# Altium footprint library 排针-排母.PcbLib: 215 footprints (part 4 of 14)
Each footprint in its own frame and in the unit in brackets; x right, y up, seen from the top. Pads: shape width x height; smd on the part's side, far side on the other; paste and mask are expansions set on the pad; w line width, h text height; cw(c..) or ccw(c..) is an arc to the next point about the centre after c.
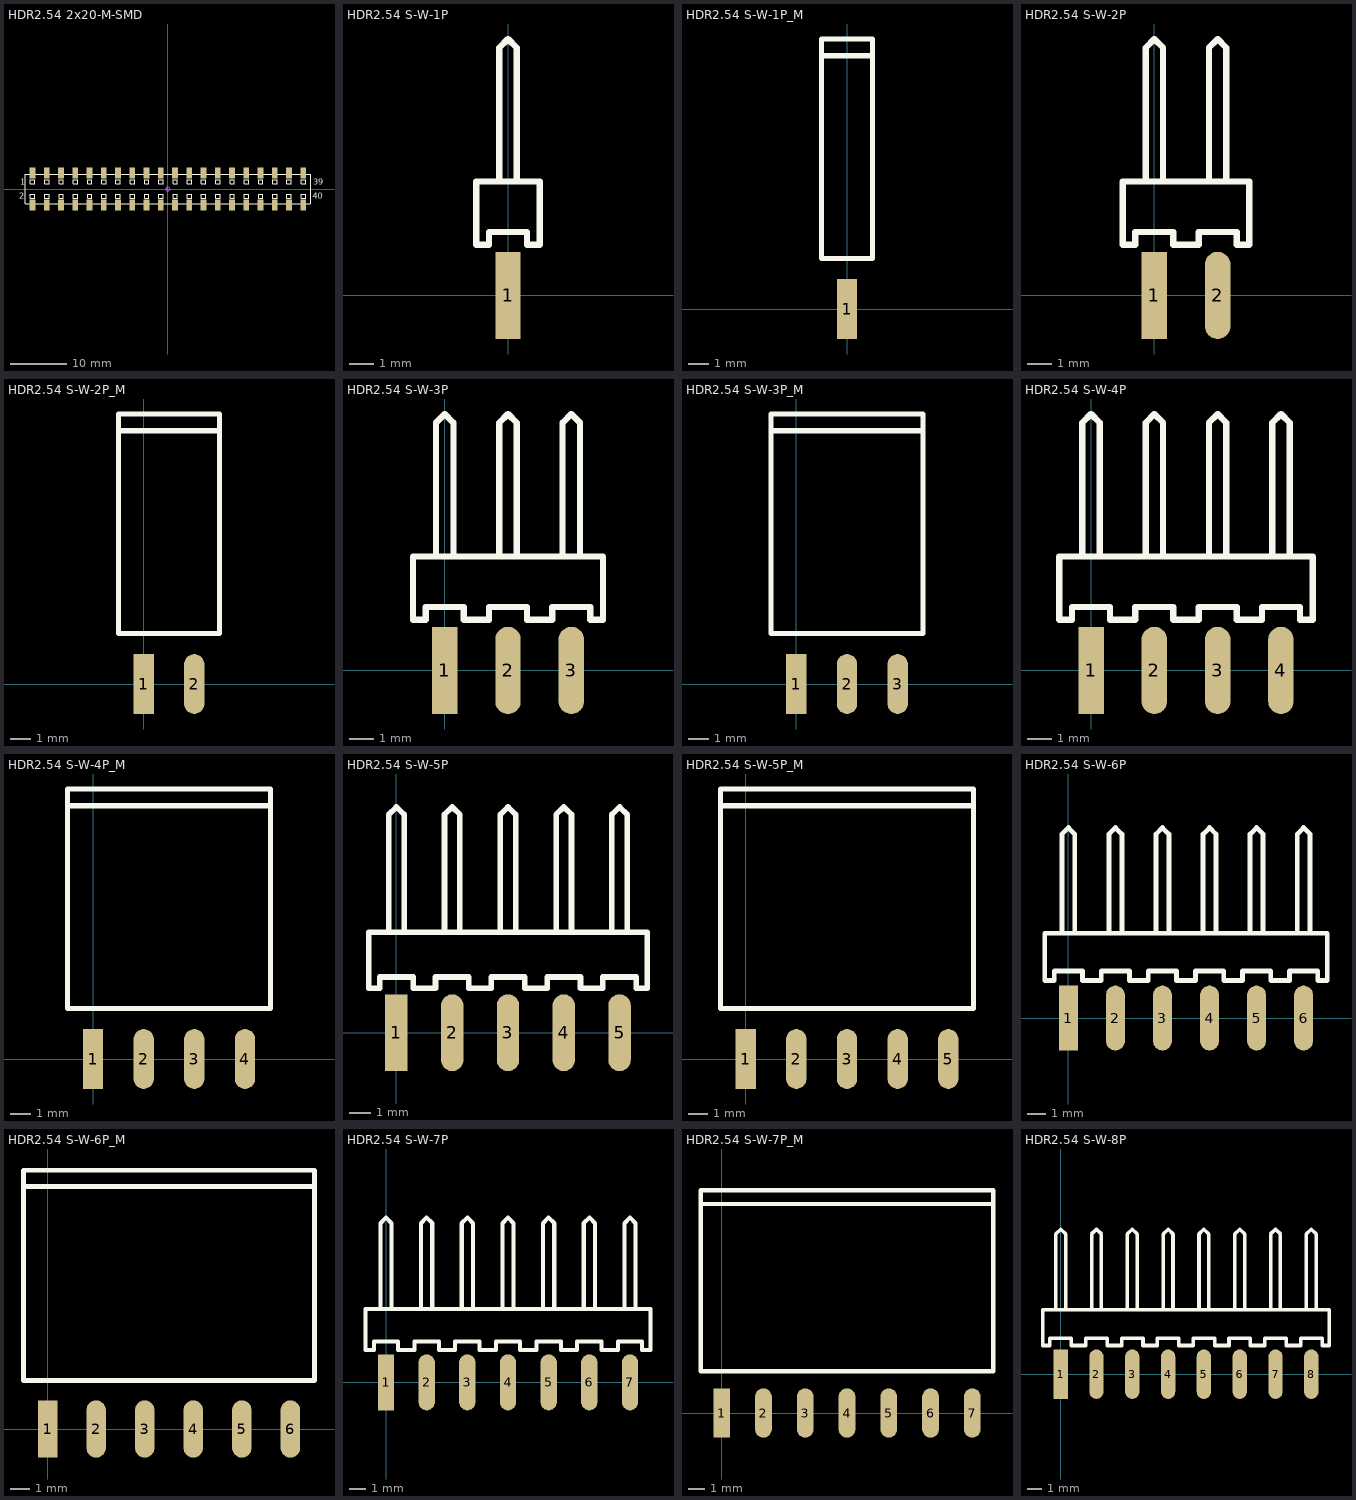
[diagram p3: the footprints below, top view; thin cyan lines are the x and y axes]

## HDR2.54 2x20-M-SMD [mm] "脚距：2.54mm，贴片双排母"
pads (40):
  rect 1.02x1.9 smd: 1(-24.13,2.85) 2(-24.13,-2.85) 3(-21.59,2.85) 4(-21.59,-2.85) 5(-19.05,2.85) 6(-19.05,-2.85) 7(-16.51,2.85) 8(-16.51,-2.85) 9(-13.97,2.85) 10(-13.97,-2.85) 11(-11.43,2.85) 12(-11.43,-2.85) 13(-8.89,2.85) 14(-8.89,-2.85) 15(-6.35,2.85) 16(-6.35,-2.85) 17(-3.81,2.85) 18(-3.81,-2.85) 19(-1.27,2.85) 20(-1.27,-2.85) 21(1.27,2.85) 22(1.27,-2.85) 23(3.81,2.85) 24(3.81,-2.85) 25(6.35,2.85) 26(6.35,-2.85) 27(8.89,2.85) 28(8.89,-2.85) 29(11.43,2.85) 30(11.43,-2.85) 31(13.97,2.85) 32(13.97,-2.85) 33(16.51,2.85) 34(16.51,-2.85) 35(19.05,2.85) 36(19.05,-2.85) 37(21.59,2.85) 38(21.59,-2.85) 39(24.13,2.85) 40(24.13,-2.85)
Top Overlay:
  drawing of 164 lines, arcs and shapes, not listed
  text "40" at 25.781,-1.778 h1.02
  text "39" at 25.908,0.762 h1.02
  text "1" at -26.289,0.762 h1.02
  text "2" at -26.543,-1.778 h1.02
Mechanical 15:
  circle w0.05: c0,0 r0.35
  lines w0.05: -0.5,0 0.5,0 ; 0,-0.5 0,0.5
3D body "HDR2.54 2x1P_M.STEP": height 5.15, standoff 0, extent -20.35,-3.2 -17.75,3.2
3D body "HDR2.54 2x1P_M.STEP": height 5.15, standoff 0, extent -22.89,-3.2 -20.29,3.2
3D body "HDR2.54 2x1P_M.STEP": height 5.15, standoff 0, extent -25.43,-3.2 -22.83,3.2
3D body "HDR2.54 2x1P_M.STEP": height 5.15, standoff 0, extent -17.81,-3.2 -15.21,3.2
3D body "HDR2.54 2x1P_M.STEP": height 5.15, standoff 0, extent -15.27,-3.2 -12.67,3.2
3D body "HDR2.54 2x1P_M.STEP": height 5.15, standoff 0, extent -12.73,-3.2 -10.13,3.2
3D body "HDR2.54 2x1P_M.STEP": height 5.15, standoff 0, extent -10.19,-3.2 -7.59,3.2
3D body "HDR2.54 2x1P_M.STEP": height 5.15, standoff 0, extent -7.65,-3.2 -5.05,3.2
3D body "HDR2.54 2x1P_M.STEP": height 5.15, standoff 0, extent -5.11,-3.2 -2.51,3.2
3D body "HDR2.54 2x1P_M.STEP": height 5.15, standoff 0, extent -2.57,-3.2 0.03,3.2
3D body "HDR2.54 2x1P_M.STEP": height 5.15, standoff 0, extent -0.03,-3.2 2.57,3.2
3D body "HDR2.54 2x1P_M.STEP": height 5.15, standoff 0, extent 2.51,-3.2 5.11,3.2
3D body "HDR2.54 2x1P_M.STEP": height 5.15, standoff 0, extent 5.05,-3.2 7.65,3.2
3D body "HDR2.54 2x1P_M.STEP": height 5.15, standoff 0, extent 7.59,-3.2 10.19,3.2
3D body "HDR2.54 2x1P_M.STEP": height 5.15, standoff 0, extent 10.13,-3.2 12.73,3.2
3D body "HDR2.54 2x1P_M.STEP": height 5.15, standoff 0, extent 12.67,-3.2 15.27,3.2
3D body "HDR2.54 2x1P_M.STEP": height 5.15, standoff 0, extent 15.21,-3.2 17.81,3.2
3D body "HDR2.54 2x1P_M.STEP": height 5.15, standoff 0, extent 17.75,-3.2 20.35,3.2
3D body "HDR2.54 2x1P_M.STEP": height 5.15, standoff 0, extent 20.29,-3.2 22.89,3.2
3D body "HDR2.54 2x1P_M.STEP": height 5.15, standoff 0, extent 22.83,-3.2 25.43,3.2

## HDR2.54 S-W-1P [mm] "1P卧式贴片排针2.54"
pads (1):
  rect 1.02x3.5 smd: 1(0,0)
Top Overlay:
  lines w0.254: -0.35,4.572 -0.35,9.8 -0.35,9.937 0,10.287 0.35,9.937 0.35,9.8 0.35,4.572 ; -1.27,2.032 -0.762,2.032 -0.762,2.54 0.508,2.54 0.762,2.54 0.762,2.032 1.27,2.032 1.27,4.572 -1.27,4.572 -1.27,2.032
3D body "HDR2.54 S-W-1P.STEP": height 2.54, standoff -0.01, extent -1.27,-0.76 1.27,10.34

## HDR2.54 S-W-1P_M [mm] "1P卧式贴片排母2.54"
pads (1):
  rect 1.02x3 smd: 1(0,0)
Top Overlay:
  lines w0.254: -1.27,12.7 1.27,12.7 ; -1.27,2.54 -1.27,13.54 1.27,13.54 1.27,2.54 -1.27,2.54
3D body "HDR2.54 S-W-1P_M.STEP": height 2.54, standoff -0.01, extent -1.27,-0.43 1.27,13.54

## HDR2.54 S-W-2P [mm] "2P卧式贴片排针2.54"
pads (2):
  rect 1.02x3.5 smd: 1(0,0)
  oval 1.02x3.5 smd: 2(2.54,0)
Top Overlay:
  lines w0.254: -0.35,4.572 -0.35,9.8 -0.35,9.937 0,10.287 0.35,9.937 0.35,9.8 0.35,4.572 ; 2.19,4.572 2.19,9.8 2.19,9.937 2.54,10.287 2.89,9.937 2.89,9.8 2.89,4.572 ; -1.27,2.032 -0.762,2.032 -0.762,2.54 0.508,2.54 0.762,2.54 0.762,2.032 1.27,2.032 1.778,2.032 1.778,2.54 3.048,2.54 3.302,2.54 3.302,2.032 3.81,2.032 3.81,4.572 1.27,4.572 -1.27,4.572 -1.27,2.032
3D body "HDR2.54 S-W-1P.STEP": height 2.54, standoff -0.01, extent -1.27,-0.76 1.27,10.34
3D body "HDR2.54 S-W-1P.STEP": height 2.54, standoff -0.01, extent 1.27,-0.76 3.81,10.34

## HDR2.54 S-W-2P_M [mm] "2P卧式贴片排母2.54"
pads (2):
  rect 1.02x3 smd: 1(0,0)
  oval 1.02x3 smd: 2(2.54,0)
Top Overlay:
  lines w0.254: -1.27,12.7 1.27,12.7 3.81,12.7 ; -1.27,2.54 1.27,2.54 3.81,2.54 3.81,13.54 1.27,13.54 -1.27,13.54 -1.27,2.54
3D body "HDR2.54 S-W-1P_M.STEP": height 2.54, standoff -0.01, extent -1.27,-0.43 1.27,13.54
3D body "HDR2.54 S-W-1P_M.STEP": height 2.54, standoff -0.01, extent 1.27,-0.43 3.81,13.54

## HDR2.54 S-W-3P [mm] "3P卧式贴片排针2.54"
pads (3):
  rect 1.02x3.5 smd: 1(0,0)
  oval 1.02x3.5 smd: 2(2.54,0) 3(5.08,0)
Top Overlay:
  lines w0.254: -0.35,4.572 -0.35,9.8 -0.35,9.937 0,10.287 0.35,9.937 0.35,9.8 0.35,4.572 ; 2.19,4.572 2.19,9.8 2.19,9.937 2.54,10.287 2.89,9.937 2.89,9.8 2.89,4.572 ; 4.73,4.572 4.73,9.8 4.73,9.937 5.08,10.287 5.43,9.937 5.43,9.8 5.43,4.572 ; -1.27,2.032 -0.762,2.032 -0.762,2.54 0.508,2.54 0.762,2.54 0.762,2.032 1.27,2.032 1.778,2.032 1.778,2.54 3.048,2.54 3.302,2.54 3.302,2.032 3.81,2.032 4.318,2.032 4.318,2.54 5.588,2.54 5.842,2.54 5.842,2.032 6.35,2.032 6.35,4.572 3.81,4.572 1.27,4.572 -1.27,4.572 -1.27,2.032
3D body "HDR2.54 S-W-1P.STEP": height 2.54, standoff -0.01, extent 3.81,-0.76 6.35,10.34
3D body "HDR2.54 S-W-1P.STEP": height 2.54, standoff -0.01, extent 1.27,-0.76 3.81,10.34
3D body "HDR2.54 S-W-1P.STEP": height 2.54, standoff -0.01, extent -1.27,-0.76 1.27,10.34

## HDR2.54 S-W-3P_M [mm] "3P卧式贴片排母2.54"
pads (3):
  rect 1.02x3 smd: 1(0,0)
  oval 1.02x3 smd: 2(2.54,0) 3(5.08,0)
Top Overlay:
  lines w0.254: -1.27,12.7 1.27,12.7 3.81,12.7 6.35,12.7 ; -1.27,2.54 -1.27,13.54 1.27,13.54 3.81,13.54 6.35,13.54 6.35,2.54 3.81,2.54 1.27,2.54 -1.27,2.54
3D body "HDR2.54 S-W-1P_M.STEP": height 2.54, standoff -0.01, extent 3.81,-0.43 6.35,13.54
3D body "HDR2.54 S-W-1P_M.STEP": height 2.54, standoff -0.01, extent 1.27,-0.43 3.81,13.54
3D body "HDR2.54 S-W-1P_M.STEP": height 2.54, standoff -0.01, extent -1.27,-0.43 1.27,13.54

## HDR2.54 S-W-4P [mm] "4P卧式贴片排针2.54"
pads (4):
  rect 1.02x3.5 smd: 1(0,0)
  oval 1.02x3.5 smd: 2(2.54,0) 3(5.08,0) 4(7.62,0)
Top Overlay:
  lines w0.254: -0.35,4.572 -0.35,9.8 -0.35,9.937 0,10.287 0.35,9.937 0.35,9.8 0.35,4.572 ; 2.19,4.572 2.19,9.8 2.19,9.937 2.54,10.287 2.89,9.937 2.89,9.8 2.89,4.572 ; 4.73,4.572 4.73,9.8 4.73,9.937 5.08,10.287 5.43,9.937 5.43,9.8 5.43,4.572 ; 7.27,4.572 7.27,9.8 7.27,9.937 7.62,10.287 7.97,9.937 7.97,9.8 7.97,4.572 ; -1.27,2.032 -1.27,4.572 1.27,4.572 3.81,4.572 6.35,4.572 8.89,4.572 8.89,2.032 8.382,2.032 8.382,2.54 8.128,2.54 6.858,2.54 6.858,2.032 6.35,2.032 5.842,2.032 5.842,2.54 5.588,2.54 4.318,2.54 4.318,2.032 3.81,2.032 3.302,2.032 3.302,2.54 3.048,2.54 1.778,2.54 1.778,2.032 1.27,2.032 0.762,2.032 0.762,2.54 0.508,2.54 -0.762,2.54 -0.762,2.032 -1.27,2.032
3D body "HDR2.54 S-W-1P.STEP": height 2.54, standoff -0.01, extent -1.27,-0.76 1.27,10.34
3D body "HDR2.54 S-W-1P.STEP": height 2.54, standoff -0.01, extent 1.27,-0.76 3.81,10.34
3D body "HDR2.54 S-W-1P.STEP": height 2.54, standoff -0.01, extent 3.81,-0.76 6.35,10.34
3D body "HDR2.54 S-W-1P.STEP": height 2.54, standoff -0.01, extent 6.35,-0.76 8.89,10.34

## HDR2.54 S-W-4P_M [mm] "4P卧式贴片排母2.54"
pads (4):
  rect 1.02x3 smd: 1(0,0)
  oval 1.02x3 smd: 2(2.54,0) 3(5.08,0) 4(7.62,0)
Top Overlay:
  lines w0.254: -1.27,12.7 1.27,12.7 3.81,12.7 6.35,12.7 8.89,12.7 ; -1.27,2.54 -1.27,13.54 1.27,13.54 3.81,13.54 6.35,13.54 8.89,13.54 8.89,2.54 6.35,2.54 3.81,2.54 1.27,2.54 -1.27,2.54
3D body "HDR2.54 S-W-1P_M.STEP": height 2.54, standoff -0.01, extent 6.35,-0.43 8.89,13.54
3D body "HDR2.54 S-W-1P_M.STEP": height 2.54, standoff -0.01, extent 3.81,-0.43 6.35,13.54
3D body "HDR2.54 S-W-1P_M.STEP": height 2.54, standoff -0.01, extent 1.27,-0.43 3.81,13.54
3D body "HDR2.54 S-W-1P_M.STEP": height 2.54, standoff -0.01, extent -1.27,-0.43 1.27,13.54

## HDR2.54 S-W-5P [mm] "5P卧式贴片排针2.54"
pads (5):
  rect 1.02x3.5 smd: 1(0,0)
  oval 1.02x3.5 smd: 2(2.54,0) 3(5.08,0) 4(7.62,0) 5(10.16,0)
Top Overlay:
  lines w0.254: -0.35,4.572 -0.35,9.8 -0.35,9.937 0,10.287 0.35,9.937 0.35,9.8 0.35,4.572 ; 2.19,4.572 2.19,9.8 2.19,9.937 2.54,10.287 2.89,9.937 2.89,9.8 2.89,4.572 ; 4.73,4.572 4.73,9.8 4.73,9.937 5.08,10.287 5.43,9.937 5.43,9.8 5.43,4.572 ; 7.27,4.572 7.27,9.8 7.27,9.937 7.62,10.287 7.97,9.937 7.97,9.8 7.97,4.572 ; 9.81,4.572 9.81,9.8 9.81,9.937 10.16,10.287 10.51,9.937 10.51,9.8 10.51,4.572 ; -1.27,2.032 -1.27,4.572 1.27,4.572 3.81,4.572 6.35,4.572 8.89,4.572 11.43,4.572 11.43,2.032 10.922,2.032 10.922,2.54 10.668,2.54 9.398,2.54 9.398,2.032 8.89,2.032 8.382,2.032 8.382,2.54 8.128,2.54 6.858,2.54 6.858,2.032 6.35,2.032 5.842,2.032 5.842,2.54 5.588,2.54 4.318,2.54 4.318,2.032 3.81,2.032 3.302,2.032 3.302,2.54 3.048,2.54 1.778,2.54 1.778,2.032 1.27,2.032 0.762,2.032 0.762,2.54 0.508,2.54 -0.762,2.54 -0.762,2.032 -1.27,2.032
3D body "HDR2.54 S-W-1P.STEP": height 2.54, standoff -0.01, extent -1.27,-0.76 1.27,10.34
3D body "HDR2.54 S-W-1P.STEP": height 2.54, standoff -0.01, extent 1.27,-0.76 3.81,10.34
3D body "HDR2.54 S-W-1P.STEP": height 2.54, standoff -0.01, extent 3.81,-0.76 6.35,10.34
3D body "HDR2.54 S-W-1P.STEP": height 2.54, standoff -0.01, extent 6.35,-0.76 8.89,10.34
3D body "HDR2.54 S-W-1P.STEP": height 2.54, standoff -0.01, extent 8.89,-0.76 11.43,10.34

## HDR2.54 S-W-5P_M [mm] "5P卧式贴片排母2.54"
pads (5):
  rect 1.02x3 smd: 1(0,0)
  oval 1.02x3 smd: 2(2.54,0) 3(5.08,0) 4(7.62,0) 5(10.16,0)
Top Overlay:
  lines w0.254: -1.27,12.7 1.27,12.7 3.81,12.7 6.35,12.7 8.89,12.7 11.43,12.7 ; -1.27,2.54 1.27,2.54 3.81,2.54 6.35,2.54 8.89,2.54 11.43,2.54 11.43,13.54 8.89,13.54 6.35,13.54 3.81,13.54 1.27,13.54 -1.27,13.54 -1.27,2.54
3D body "HDR2.54 S-W-1P_M.STEP": height 2.54, standoff -0.01, extent -1.27,-0.43 1.27,13.54
3D body "HDR2.54 S-W-1P_M.STEP": height 2.54, standoff -0.01, extent 1.27,-0.43 3.81,13.54
3D body "HDR2.54 S-W-1P_M.STEP": height 2.54, standoff -0.01, extent 3.81,-0.43 6.35,13.54
3D body "HDR2.54 S-W-1P_M.STEP": height 2.54, standoff -0.01, extent 6.35,-0.43 8.89,13.54
3D body "HDR2.54 S-W-1P_M.STEP": height 2.54, standoff -0.01, extent 8.89,-0.43 11.43,13.54

## HDR2.54 S-W-6P [mm] "6P卧式贴片排针2.54"
pads (6):
  rect 1.02x3.5 smd: 1(0,0)
  oval 1.02x3.5 smd: 2(2.54,0) 3(5.08,0) 4(7.62,0) 5(10.16,0) 6(12.7,0)
Top Overlay:
  lines w0.254: -0.35,4.572 -0.35,9.8 -0.35,9.937 0,10.287 0.35,9.937 0.35,9.8 0.35,4.572 ; 2.19,4.572 2.19,9.8 2.19,9.937 2.54,10.287 2.89,9.937 2.89,9.8 2.89,4.572 ; 4.73,4.572 4.73,9.8 4.73,9.937 5.08,10.287 5.43,9.937 5.43,9.8 5.43,4.572 ; 7.27,4.572 7.27,9.8 7.27,9.937 7.62,10.287 7.97,9.937 7.97,9.8 7.97,4.572 ; 9.81,4.572 9.81,9.8 9.81,9.937 10.16,10.287 10.51,9.937 10.51,9.8 10.51,4.572 ; 12.35,4.572 12.35,9.8 12.35,9.937 12.7,10.287 13.05,9.937 13.05,9.8 13.05,4.572 ; -1.27,2.032 -1.27,4.572 1.27,4.572 3.81,4.572 6.35,4.572 8.89,4.572 11.43,4.572 13.97,4.572 13.97,2.032 13.462,2.032 13.462,2.54 13.208,2.54 11.938,2.54 11.938,2.032 11.43,2.032 10.922,2.032 10.922,2.54 10.668,2.54 9.398,2.54 9.398,2.032 8.89,2.032 8.382,2.032 8.382,2.54 8.128,2.54 6.858,2.54 6.858,2.032 6.35,2.032 5.842,2.032 5.842,2.54 5.588,2.54 4.318,2.54 4.318,2.032 3.81,2.032 3.302,2.032 3.302,2.54 3.048,2.54 1.778,2.54 1.778,2.032 1.27,2.032 0.762,2.032 0.762,2.54 0.508,2.54 -0.762,2.54 -0.762,2.032 -1.27,2.032
3D body "HDR2.54 S-W-1P.STEP": height 2.54, standoff -0.01, extent 11.43,-0.76 13.97,10.34
3D body "HDR2.54 S-W-1P.STEP": height 2.54, standoff -0.01, extent -1.27,-0.76 1.27,10.34
3D body "HDR2.54 S-W-1P.STEP": height 2.54, standoff -0.01, extent 1.27,-0.76 3.81,10.34
3D body "HDR2.54 S-W-1P.STEP": height 2.54, standoff -0.01, extent 3.81,-0.76 6.35,10.34
3D body "HDR2.54 S-W-1P.STEP": height 2.54, standoff -0.01, extent 6.35,-0.76 8.89,10.34
3D body "HDR2.54 S-W-1P.STEP": height 2.54, standoff -0.01, extent 8.89,-0.76 11.43,10.34

## HDR2.54 S-W-6P_M [mm] "6P卧式贴片排母2.54"
pads (6):
  rect 1.02x3 smd: 1(0,0)
  oval 1.02x3 smd: 2(2.54,0) 3(5.08,0) 4(7.62,0) 5(10.16,0) 6(12.7,0)
Top Overlay:
  lines w0.254: -1.27,12.7 1.27,12.7 3.81,12.7 6.35,12.7 8.89,12.7 11.43,12.7 13.97,12.7 ; -1.27,2.54 -1.27,13.54 1.27,13.54 3.81,13.54 6.35,13.54 8.89,13.54 11.43,13.54 13.97,13.54 13.97,2.54 11.43,2.54 8.89,2.54 6.35,2.54 3.81,2.54 1.27,2.54 -1.27,2.54
3D body "HDR2.54 S-W-1P_M.STEP": height 2.54, standoff -0.01, extent 11.43,-0.43 13.97,13.54
3D body "HDR2.54 S-W-1P_M.STEP": height 2.54, standoff -0.01, extent 8.89,-0.43 11.43,13.54
3D body "HDR2.54 S-W-1P_M.STEP": height 2.54, standoff -0.01, extent 6.35,-0.43 8.89,13.54
3D body "HDR2.54 S-W-1P_M.STEP": height 2.54, standoff -0.01, extent 3.81,-0.43 6.35,13.54
3D body "HDR2.54 S-W-1P_M.STEP": height 2.54, standoff -0.01, extent 1.27,-0.43 3.81,13.54
3D body "HDR2.54 S-W-1P_M.STEP": height 2.54, standoff -0.01, extent -1.27,-0.43 1.27,13.54

## HDR2.54 S-W-7P [mm] "7P卧式贴片排针2.54"
pads (7):
  rect 1.02x3.5 smd: 1(0,0)
  oval 1.02x3.5 smd: 2(2.54,0) 3(5.08,0) 4(7.62,0) 5(10.16,0) 6(12.7,0) 7(15.24,0)
Top Overlay:
  lines w0.254: -0.35,4.572 -0.35,9.8 -0.35,9.937 0,10.287 0.35,9.937 0.35,9.8 0.35,4.572 ; 2.19,4.572 2.19,9.8 2.19,9.937 2.54,10.287 2.89,9.937 2.89,9.8 2.89,4.572 ; 4.73,4.572 4.73,9.8 4.73,9.937 5.08,10.287 5.43,9.937 5.43,9.8 5.43,4.572 ; 7.27,4.572 7.27,9.8 7.27,9.937 7.62,10.287 7.97,9.937 7.97,9.8 7.97,4.572 ; 9.81,4.572 9.81,9.8 9.81,9.937 10.16,10.287 10.51,9.937 10.51,9.8 10.51,4.572 ; 12.35,4.572 12.35,9.8 12.35,9.937 12.7,10.287 13.05,9.937 13.05,9.8 13.05,4.572 ; 14.89,4.572 14.89,9.8 14.89,9.937 15.24,10.287 15.59,9.937 15.59,9.8 15.59,4.572 ; -1.27,2.032 -0.762,2.032 -0.762,2.54 0.508,2.54 0.762,2.54 0.762,2.032 1.27,2.032 1.778,2.032 1.778,2.54 3.048,2.54 3.302,2.54 3.302,2.032 3.81,2.032 4.318,2.032 4.318,2.54 5.588,2.54 5.842,2.54 5.842,2.032 6.35,2.032 6.858,2.032 6.858,2.54 8.128,2.54 8.382,2.54 8.382,2.032 8.89,2.032 9.398,2.032 9.398,2.54 10.668,2.54 10.922,2.54 10.922,2.032 11.43,2.032 11.938,2.032 11.938,2.54 13.208,2.54 13.462,2.54 13.462,2.032 13.97,2.032 14.478,2.032 14.478,2.54 15.748,2.54 16.002,2.54 16.002,2.032 16.51,2.032 16.51,4.572 13.97,4.572 11.43,4.572 8.89,4.572 6.35,4.572 3.81,4.572 1.27,4.572 -1.27,4.572 -1.27,2.032
3D body "HDR2.54 S-W-1P.STEP": height 2.54, standoff -0.01, extent 8.89,-0.76 11.43,10.34
3D body "HDR2.54 S-W-1P.STEP": height 2.54, standoff -0.01, extent 6.35,-0.76 8.89,10.34
3D body "HDR2.54 S-W-1P.STEP": height 2.54, standoff -0.01, extent 3.81,-0.76 6.35,10.34
3D body "HDR2.54 S-W-1P.STEP": height 2.54, standoff -0.01, extent 1.27,-0.76 3.81,10.34
3D body "HDR2.54 S-W-1P.STEP": height 2.54, standoff -0.01, extent -1.27,-0.76 1.27,10.34
3D body "HDR2.54 S-W-1P.STEP": height 2.54, standoff -0.01, extent 11.43,-0.76 13.97,10.34
3D body "HDR2.54 S-W-1P.STEP": height 2.54, standoff -0.01, extent 13.97,-0.76 16.51,10.34

## HDR2.54 S-W-7P_M [mm] "7P卧式贴片排母2.54"
pads (7):
  rect 1.02x3 smd: 1(0,0)
  oval 1.02x3 smd: 2(2.54,0) 3(5.08,0) 4(7.62,0) 5(10.16,0) 6(12.7,0) 7(15.24,0)
Top Overlay:
  lines w0.254: -1.27,12.7 1.27,12.7 3.81,12.7 6.35,12.7 8.89,12.7 11.43,12.7 13.97,12.7 16.51,12.7 ; -1.27,2.54 1.27,2.54 3.81,2.54 6.35,2.54 8.89,2.54 11.43,2.54 13.97,2.54 16.51,2.54 16.51,13.54 13.97,13.54 11.43,13.54 8.89,13.54 6.35,13.54 3.81,13.54 1.27,13.54 -1.27,13.54 -1.27,2.54
3D body "HDR2.54 S-W-1P_M.STEP": height 2.54, standoff -0.01, extent -1.27,-0.43 1.27,13.54
3D body "HDR2.54 S-W-1P_M.STEP": height 2.54, standoff -0.01, extent 1.27,-0.43 3.81,13.54
3D body "HDR2.54 S-W-1P_M.STEP": height 2.54, standoff -0.01, extent 3.81,-0.43 6.35,13.54
3D body "HDR2.54 S-W-1P_M.STEP": height 2.54, standoff -0.01, extent 6.35,-0.43 8.89,13.54
3D body "HDR2.54 S-W-1P_M.STEP": height 2.54, standoff -0.01, extent 8.89,-0.43 11.43,13.54
3D body "HDR2.54 S-W-1P_M.STEP": height 2.54, standoff -0.01, extent 11.43,-0.43 13.97,13.54
3D body "HDR2.54 S-W-1P_M.STEP": height 2.54, standoff -0.01, extent 13.97,-0.43 16.51,13.54

## HDR2.54 S-W-8P [mm] "8P卧式贴片排针2.54"
pads (8):
  rect 1.02x3.5 smd: 1(0,0)
  oval 1.02x3.5 smd: 2(2.54,0) 3(5.08,0) 4(7.62,0) 5(10.16,0) 6(12.7,0) 7(15.24,0) 8(17.78,0)
Top Overlay:
  lines w0.254: -0.35,4.572 -0.35,9.8 -0.35,9.937 0,10.287 0.35,9.937 0.35,9.8 0.35,4.572 ; 2.19,4.572 2.19,9.8 2.19,9.937 2.54,10.287 2.89,9.937 2.89,9.8 2.89,4.572 ; 4.73,4.572 4.73,9.8 4.73,9.937 5.08,10.287 5.43,9.937 5.43,9.8 5.43,4.572 ; 7.27,4.572 7.27,9.8 7.27,9.937 7.62,10.287 7.97,9.937 7.97,9.8 7.97,4.572 ; 9.81,4.572 9.81,9.8 9.81,9.937 10.16,10.287 10.51,9.937 10.51,9.8 10.51,4.572 ; 12.35,4.572 12.35,9.8 12.35,9.937 12.7,10.287 13.05,9.937 13.05,9.8 13.05,4.572 ; 14.89,4.572 14.89,9.8 14.89,9.937 15.24,10.287 15.59,9.937 15.59,9.8 15.59,4.572 ; 17.43,4.572 17.43,9.8 17.43,9.937 17.78,10.287 18.13,9.937 18.13,9.8 18.13,4.572 ; -1.27,2.032 -1.27,4.572 1.27,4.572 3.81,4.572 6.35,4.572 8.89,4.572 11.43,4.572 13.97,4.572 16.51,4.572 19.05,4.572 19.05,2.032 18.542,2.032 18.542,2.54 18.288,2.54 17.018,2.54 17.018,2.032 16.51,2.032 16.002,2.032 16.002,2.54 15.748,2.54 14.478,2.54 14.478,2.032 13.97,2.032 13.462,2.032 13.462,2.54 13.208,2.54 11.938,2.54 11.938,2.032 11.43,2.032 10.922,2.032 10.922,2.54 10.668,2.54 9.398,2.54 9.398,2.032 8.89,2.032 8.382,2.032 8.382,2.54 8.128,2.54 6.858,2.54 6.858,2.032 6.35,2.032 5.842,2.032 5.842,2.54 5.588,2.54 4.318,2.54 4.318,2.032 3.81,2.032 3.302,2.032 3.302,2.54 3.048,2.54 1.778,2.54 1.778,2.032 1.27,2.032 0.762,2.032 0.762,2.54 0.508,2.54 -0.762,2.54 -0.762,2.032 -1.27,2.032
3D body "HDR2.54 S-W-1P.STEP": height 2.54, standoff -0.01, extent 16.51,-0.76 19.05,10.34
3D body "HDR2.54 S-W-1P.STEP": height 2.54, standoff -0.01, extent 13.97,-0.76 16.51,10.34
3D body "HDR2.54 S-W-1P.STEP": height 2.54, standoff -0.01, extent 11.43,-0.76 13.97,10.34
3D body "HDR2.54 S-W-1P.STEP": height 2.54, standoff -0.01, extent -1.27,-0.76 1.27,10.34
3D body "HDR2.54 S-W-1P.STEP": height 2.54, standoff -0.01, extent 1.27,-0.76 3.81,10.34
3D body "HDR2.54 S-W-1P.STEP": height 2.54, standoff -0.01, extent 3.81,-0.76 6.35,10.34
3D body "HDR2.54 S-W-1P.STEP": height 2.54, standoff -0.01, extent 6.35,-0.76 8.89,10.34
3D body "HDR2.54 S-W-1P.STEP": height 2.54, standoff -0.01, extent 8.89,-0.76 11.43,10.34